# Altium schematic symbol library CAP-SM-0402-X7R-2.2nF.Schlib: 1 symbol
Pins are listed as number, name and electrical type; pins without a type are passive.

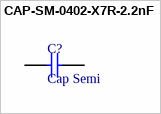
[diagram p0: symbol CAP-SM-0402-X7R-2.2nF]

## CAP-SM-0402-X7R-2.2nF
designator C?, comment Cap Semi
CAP SM 0402 X7R 2.2nF 10%
pins: 1, 2